# Altium schematic symbol library PicoBlade_53398-0471.Schlib: 1 symbol
Pins are listed as number, name and electrical type; pins without a type are passive.

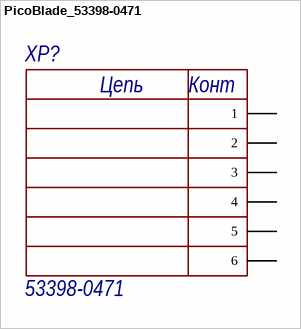
[diagram p0: symbol PicoBlade_53398-0471]

## PicoBlade_53398-0471
designator XP?, comment 53398-0471
Разъем PicoBlade 1.25 мм, 4pin
pins: 1, 2, 3, 4, 5, 6
text: Цепь; Конт